# Altium footprint library con-deutsch.PCBLIB: 27 footprints (part 1 of 2)
Each footprint in its own frame and in the unit in brackets; x right, y up, seen from the top. Pads: shape width x height; smd on the part's side, far side on the other; paste and mask are expansions set on the pad; w line width, h text height; cw(c..) or ccw(c..) is an arc to the next point about the centre after c.
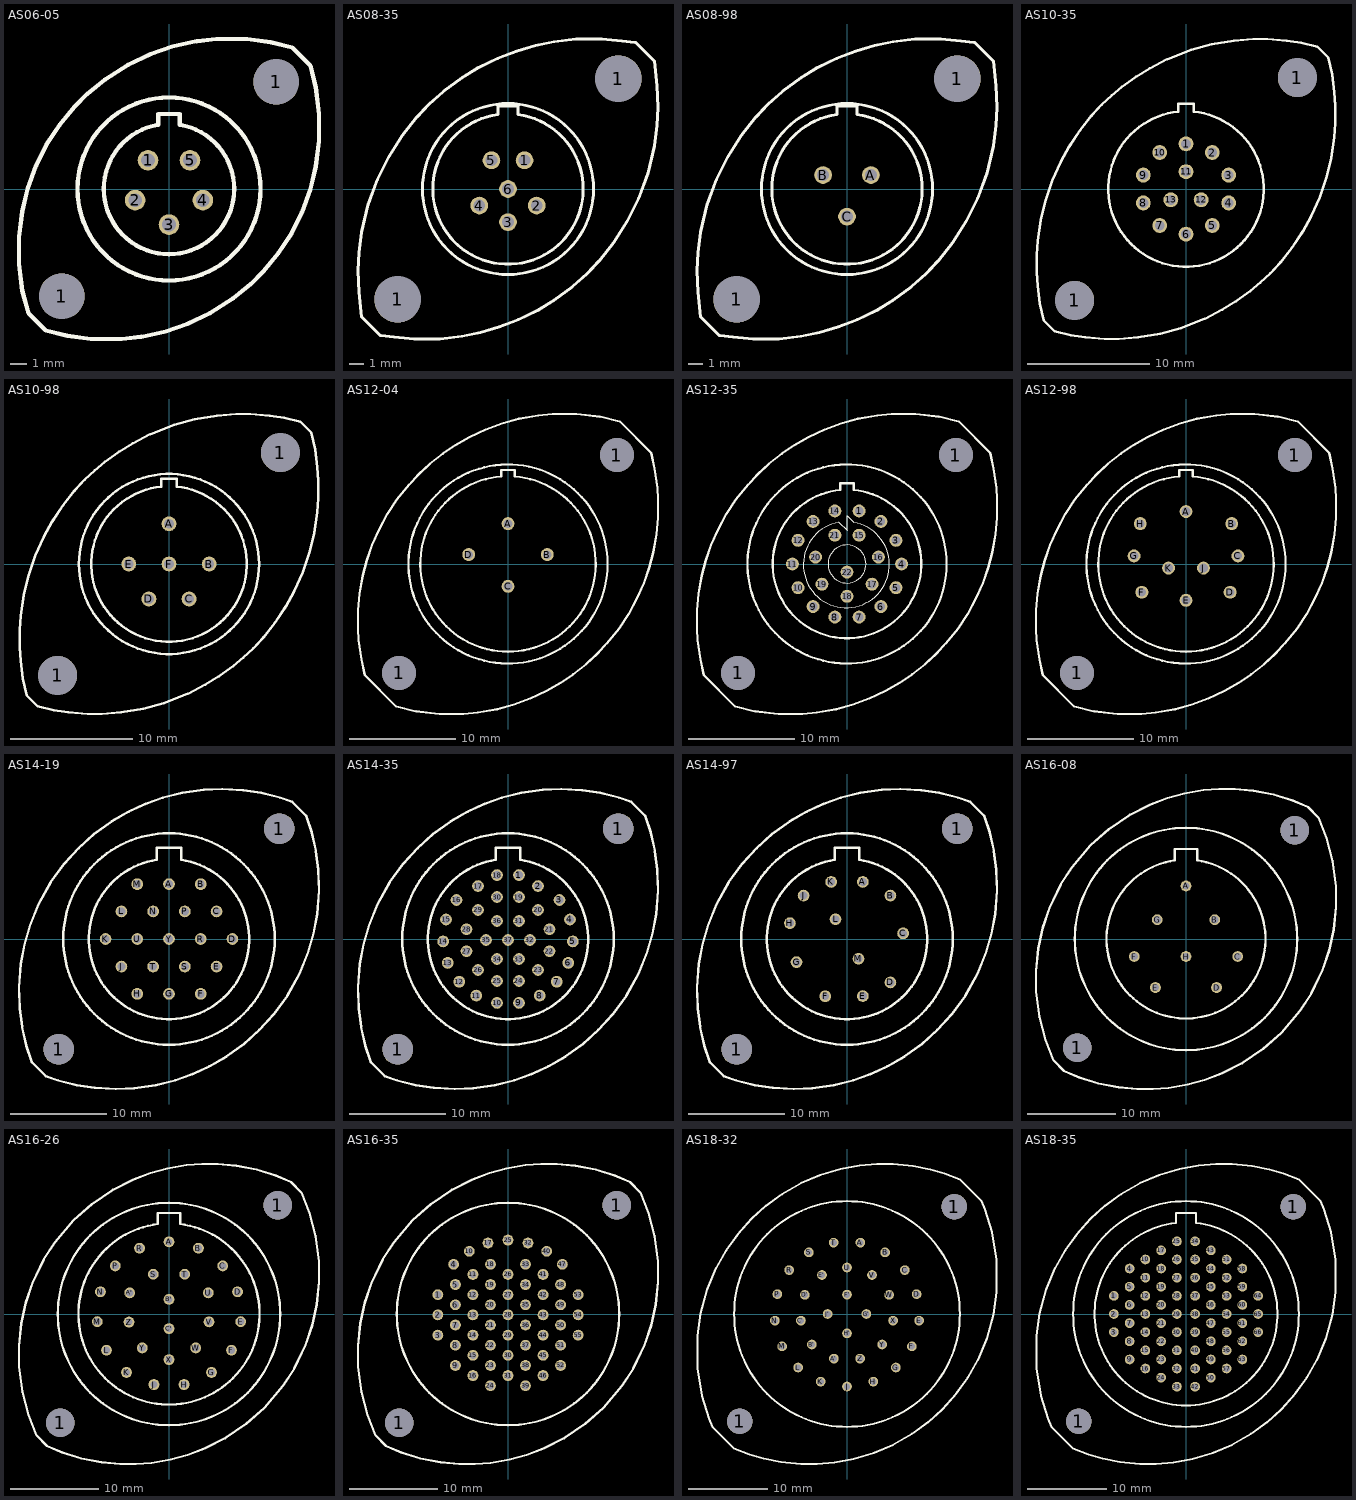
[diagram p0: the footprints below, top view; thin cyan lines are the x and y axes]

## AS06-05 [mil]
pads (7):
  round 106.3 hole 106.3: 1(-250,-250) 1(250,250)
  round 48 hole 32: 1(-49,67) 2(-79,-26) 3(0,-83) 4(79,-26) 5(49,67)
Top Overlay:
  circle w10: c0,0 r213.6
  lines w10: -350,-175 -342.5,-237.5 -327.5,-290 -287.5,-330 -237.5,-342.5 -182.5,-350 -110,-350 -65,-345 -7.5,-332.5 42.5,-315 95,-290 150,-255 190,-222.5 220,-192.5 255,-150 285,-105 310,-55 330,0 342.5,52.5 350,112.5 350,175 342.5,237.5 330,287.5 287.5,330 237.5,342.5 182.5,350 110,350 65,345 7.5,332.5 -42.5,315 -95,290 -150,255 -190,222.5 -220,192.5 -255,150 -285,105 -310,55 -330,0 -342.5,-52.5 -350,-112.5 -350,-175 ; -25,150 ccw(c0,0) 25,150 25,175 -25,175 -25,150

## AS08-35 [mil]
pads (8):
  round 125.98 hole 125.98: 1(-300,-300) 1(300,300)
  round 48 hole 32: 1(45,78) 2(78,-45) 3(0,-90) 4(-78,-45) 5(-45,78) 6(0,0)
Top Overlay:
  circle w8: c0,0 r232.5
  lines w8: -347.5,-397.5 -397.5,-347.5 -405,-280 -407.5,-222.5 -405,-172.5 -397.5,-117.5 -380,-42.5 -355,25 -325,85 -287.5,145 -247.5,195 -215,230 -175,265 -125,302.5 -80,330 -27.5,355 25,375 75,390 125,400 185,407.5 255,407.5 310,402.5 345,397.5 ; -345,-397.5 -310,-402.5 -255,-407.5 -185,-407.5 -125,-400 -75,-390 -25,-375 27.5,-355 80,-330 125,-302.5 175,-265 215,-230 247.5,-195 287.5,-145 325,-85 355,-25 380,42.5 397.5,117.5 405,172.5 407.5,222.5 405,280 397.5,347.5 347.5,397.5 ; -27.5,202.5 ccw(c0,0) 27.5,202.5 27.5,225 -27.5,225 -27.5,202.5

## AS08-98 [mil]
pads (5):
  round 125.98 hole 125.98: 1(-300,-300) 1(300,300)
  round 48 hole 32: A(65,38) B(-65,38) C(0,-75)
Top Overlay:
  circle w8: c0,0 r232.5
  lines w8: -347.5,-397.5 -397.5,-347.5 -405,-280 -407.5,-222.5 -405,-172.5 -397.5,-117.5 -380,-42.5 -355,25 -325,85 -287.5,145 -247.5,195 -215,230 -175,265 -125,302.5 -80,330 -27.5,355 25,375 75,390 125,400 185,407.5 255,407.5 310,402.5 345,397.5 ; -345,-397.5 -310,-402.5 -255,-407.5 -185,-407.5 -125,-400 -75,-390 -25,-375 27.5,-355 80,-330 125,-302.5 175,-265 215,-230 247.5,-195 287.5,-145 325,-85 355,-25 380,42.5 397.5,117.5 405,172.5 407.5,222.5 405,280 397.5,347.5 347.5,397.5 ; -27.5,202.5 ccw(c0,0) 27.5,202.5 27.5,225 -27.5,225 -27.5,202.5

## AS10-35 [mil]
pads (15):
  round 125.98 hole 125.98: 1(-360,-360) 1(360,360)
  round 48 hole 32: 1(0,146) 2(85,118) 3(138,45) 4(138,-45) 5(85,-118) 6(0,-146) 7(-85,-118) 8(-138,-45) 9(-138,45) 10(-85,118) 11(0,56) 12(49,-35) 13(-49,-35)
Top Overlay:
  lines w8: -482.5,-270 -480,-312.5 -472.5,-370 -460,-425 -425,-460 -372.5,-472.5 -325,-480 -262.5,-485 -217.5,-485 -155,-480 -82.5,-467.5 -17.5,-450 60,-420 117.5,-390 162.5,-362.5 207.5,-330 240,-302.5 272.5,-272.5 305,-237.5 342.5,-190 377.5,-137.5 405,-87.5 432.5,-27.5 455,40 470,100 480,167.5 482.5,212.5 482.5,270 480,312.5 472.5,370 460,425 425,460 372.5,472.5 325,480 262.5,485 217.5,485 155,480 82.5,467.5 17.5,450 -60,420 -117.5,390 -162.5,362.5 -207.5,330 -240,302.5 -272.5,272.5 -305,237.5 -342.5,190 -377.5,137.5 -405,87.5 -432.5,27.5 -455,-40 -470,-100 -480,-167.5 -482.5,-212.5 -482.5,-270 ; -25,250 -25,275 25,275 25,250 cw(c0,0) -25,250

## AS10-98 [mil]
pads (8):
  round 125.98 hole 125.98: 1(-360,-360) 1(360,360)
  round 48 hole 32: A(0,130) B(130,0) C(65,-113) D(-65,-113) E(-130,0) F(0,0)
Top Overlay:
  circle w8: c0,0 r291.34
  lines w8: -482.5,-270 -480,-312.5 -472.5,-370 -460,-425 -425,-460 -372.5,-472.5 -325,-480 -262.5,-485 -217.5,-485 -155,-480 -82.5,-467.5 -17.5,-450 60,-420 117.5,-390 162.5,-362.5 207.5,-330 240,-302.5 272.5,-272.5 305,-237.5 342.5,-190 377.5,-137.5 405,-87.5 432.5,-27.5 455,40 470,100 480,167.5 482.5,212.5 482.5,270 480,312.5 472.5,370 460,425 425,460 372.5,472.5 325,480 262.5,485 217.5,485 155,480 82.5,467.5 17.5,450 -60,420 -117.5,390 -162.5,362.5 -207.5,330 -240,302.5 -272.5,272.5 -305,237.5 -342.5,190 -377.5,137.5 -405,87.5 -432.5,27.5 -455,-40 -470,-100 -480,-167.5 -482.5,-212.5 -482.5,-270 ; -25,250 -25,275 25,275 25,250 cw(c0,0) -25,250

## AS12-04 [mil]
pads (6):
  round 125.98 hole 125.98: 1(-405,-405) 1(405,405)
  round 48 hole 32: A(0,150) B(146,35) C(0,-83) D(-146,35)
Top Overlay:
  circle w8: c0,0 r370
  lines w8: -557.5,-240 -555,-282.5 -545,-355 -532.5,-412.5 -415,-530 -342.5,-547.5 -255,-557.5 -165,-557.5 -112.5,-552.5 -40,-540 22.5,-522.5 82.5,-500 142.5,-472.5 197.5,-440 242.5,-410 290,-372.5 332.5,-332.5 367.5,-295 412.5,-240 447.5,-187.5 480,-127.5 505,-70 525,-12.5 540,42.5 552.5,110 557.5,172.5 557.5,240 555,282.5 545,355 532.5,412.5 415,530 342.5,547.5 255,557.5 165,557.5 112.5,552.5 40,540 -22.5,522.5 -82.5,500 -142.5,472.5 -197.5,440 -242.5,410 -290,372.5 -332.5,332.5 -367.5,295 -412.5,240 -447.5,187.5 -480,127.5 -505,70 -525,12.5 -540,-42.5 -552.5,-110 -557.5,-172.5 -557.5,-240 ; -25,325 -25,350 25,350 25,325 cw(c0,0) -25,325

## AS12-35 [mil]
pads (24):
  round 125.98 hole 125.98: 1(-405,-405) 1(405,405)
  round 48 hole 32: 1(45,197) 2(126,158) 3(182,88) 4(203,0) 5(182,-88) 6(126,-158) 7(45,-197) 8(-45,-197) 9(-126,-158) 10(-182,-88) 11(-203,0) 12(-182,88) 13(-126,158) 14(-45,197) 15(45,107) 16(117,26) 17(93,-75) 18(0,-120) 19(-93,-75) 20(-117,26) 21(-45,107) 22(0,-30)
Top Overlay:
  circle w8: c0,0 r370
  circle w2: c0,0 r70.71
  lines w2: -30,155 ccw(c-2.5,-2.5) 25,155 0,180 0,125 -30,155
  lines w8: -557.5,-240 -555,-282.5 -545,-355 -532.5,-412.5 -415,-530 -342.5,-547.5 -255,-557.5 -165,-557.5 -112.5,-552.5 -40,-540 22.5,-522.5 82.5,-500 142.5,-472.5 197.5,-440 242.5,-410 290,-372.5 332.5,-332.5 367.5,-295 412.5,-240 447.5,-187.5 480,-127.5 505,-70 525,-12.5 540,42.5 552.5,110 557.5,172.5 557.5,240 555,282.5 545,355 532.5,412.5 415,530 342.5,547.5 255,557.5 165,557.5 112.5,552.5 40,540 -22.5,522.5 -82.5,500 -142.5,472.5 -197.5,440 -242.5,410 -290,372.5 -332.5,332.5 -367.5,295 -412.5,240 -447.5,187.5 -480,127.5 -505,70 -525,12.5 -540,-42.5 -552.5,-110 -557.5,-172.5 -557.5,-240 ; -25,275 -25,300 25,300 25,275 cw(c0,0) -25,275

## AS12-98 [mil]
pads (12):
  round 125.98 hole 125.98: 1(-405,-405) 1(405,405)
  round 48 hole 32: A(0,195) B(170,150) C(193,30) D(164,-105) E(0,-135) F(-164,-105) G(-193,30) H(-170,150) J(65,-15) K(-65,-15)
Top Overlay:
  circle w8: c0,0 r370
  lines w8: -557.5,-240 -555,-282.5 -545,-355 -532.5,-412.5 -415,-530 -342.5,-547.5 -255,-557.5 -165,-557.5 -112.5,-552.5 -40,-540 22.5,-522.5 82.5,-500 142.5,-472.5 197.5,-440 242.5,-410 290,-372.5 332.5,-332.5 367.5,-295 412.5,-240 447.5,-187.5 480,-127.5 505,-70 525,-12.5 540,42.5 552.5,110 557.5,172.5 557.5,240 555,282.5 545,355 532.5,412.5 415,530 342.5,547.5 255,557.5 165,557.5 112.5,552.5 40,540 -22.5,522.5 -82.5,500 -142.5,472.5 -197.5,440 -242.5,410 -290,372.5 -332.5,332.5 -367.5,295 -412.5,240 -447.5,187.5 -480,127.5 -505,70 -525,12.5 -540,-42.5 -552.5,-110 -557.5,-172.5 -557.5,-240 ; -25,325 -25,350 25,350 25,325 cw(c0,0) -25,325

## AS14-19 [mil]
pads (21):
  round 125.98 hole 125.98: 1(-452.5,-452.5) 1(452.5,452.5)
  round 48 hole 32: A(0,225) B(130,225) C(195,113) D(260,0) E(195,-113) F(130,-225) G(0,-225) H(-130,-225) J(-195,-113) K(-260,0) L(-195,113) M(-130,225) N(-65,113) P(65,113) R(130,0) S(65,-113) T(-65,-113) U(-130,0) Y(0,0)
Top Overlay:
  circle w10: c0,0 r433.46
  lines w10: -615,-197.5 -612.5,-285 -602.5,-360 -585,-437.5 -562.5,-505 -505,-562.5 -455,-580 -377.5,-600 -305,-610 -217.5,-615 -142.5,-612.5 -55,-600 25,-580 95,-555 165,-522.5 235,-482.5 307.5,-430 370,-372.5 430,-307.5 485,-232.5 535,-142.5 570,-55 592.5,22.5 607.5,102.5 615,197.5 612.5,285 602.5,360 585,437.5 562.5,505 505,562.5 455,580 377.5,600 305,610 217.5,615 142.5,612.5 55,600 -25,580 -95,555 -165,522.5 -235,482.5 -307.5,430 -370,372.5 -430,307.5 -485,232.5 -535,142.5 -570,55 -592.5,-22.5 -607.5,-102.5 -615,-197.5 ; -50,325 ccw(c0,0) 50,325 50,375 -50,375 -50,325

## AS14-35 [mil]
pads (39):
  round 125.98 hole 125.98: 1(-452.5,-452.5) 1(452.5,452.5)
  round 48 hole 32: 1(45,262) 2(123,217) 3(211,160) 4(254,80) 5(266,-10) 6(247,-98) 7(200,-175) 8(130,-232) 9(45,-262) 10(-45,-262) 11(-130,-232) 12(-200,-175) 13(-247,-98) 14(-266,-10) 15(-254,80) 16(-211,160) 17(-123,217) 18(-45,262) 19(45,172) 20(123,119) 21(170,40) 22(170,-50) 23(123,-127) 24(45,-172) 25(-45,-172) 26(-123,-127) 27(-170,-50) 28(-170,40) 29(-123,119) 30(-45,172) 31(45,74) 32(90,-4) 33(45,-82) 34(-45,-82) 35(-90,-4) 36(-45,74) 37(0,-4)
Top Overlay:
  circle w10: c0,0 r433.46
  lines w10: -615,-197.5 -612.5,-285 -602.5,-360 -585,-437.5 -562.5,-505 -505,-562.5 -455,-580 -377.5,-600 -305,-610 -217.5,-615 -142.5,-612.5 -55,-600 25,-580 95,-555 165,-522.5 235,-482.5 307.5,-430 370,-372.5 430,-307.5 485,-232.5 535,-142.5 570,-55 592.5,22.5 607.5,102.5 615,197.5 612.5,285 602.5,360 585,437.5 562.5,505 505,562.5 455,580 377.5,600 305,610 217.5,615 142.5,612.5 55,600 -25,580 -95,555 -165,522.5 -235,482.5 -307.5,430 -370,372.5 -430,307.5 -485,232.5 -535,142.5 -570,55 -592.5,-22.5 -607.5,-102.5 -615,-197.5 ; -50,325 ccw(c0,0) 50,325 50,375 -50,375 -50,325

## AS14-97 [mil]
pads (14):
  round 125.98 hole 125.98: 1(-452.5,-452.5) 1(452.5,452.5)
  round 48 hole 32: A(65,234) B(178,178) C(230,23) D(178,-178) E(65,-234) F(-89,-235) G(-207,-95) H(-234,65) J(-178,178) K(-65,234) L(-47,81) M(47,-81)
Top Overlay:
  circle w10: c0,0 r433.46
  lines w10: -615,-197.5 -612.5,-285 -602.5,-360 -585,-437.5 -562.5,-505 -505,-562.5 -455,-580 -377.5,-600 -305,-610 -217.5,-615 -142.5,-612.5 -55,-600 25,-580 95,-555 165,-522.5 235,-482.5 307.5,-430 370,-372.5 430,-307.5 485,-232.5 535,-142.5 570,-55 592.5,22.5 607.5,102.5 615,197.5 612.5,285 602.5,360 585,437.5 562.5,505 505,562.5 455,580 377.5,600 305,610 217.5,615 142.5,612.5 55,600 -25,580 -95,555 -165,522.5 -235,482.5 -307.5,430 -370,372.5 -430,307.5 -485,232.5 -535,142.5 -570,55 -592.5,-22.5 -607.5,-102.5 -615,-197.5 ; -50,325 ccw(c0,0) 50,325 50,375 -50,375 -50,325

## AS16-08 [mil]
pads (10):
  round 125.98 hole 125.98: 1(-483.86,-483.86) 1(483.86,483.86)
  round 48 hole 32: A(0,236) B(128,86) C(230,-78) D(136,-216) E(-136,-216) F(-230,-78) G(-128,86) H(0,-78)
Top Overlay:
  circle w10: c0,0 r495
  lines w10: -667.5,-235 -652.5,-347.5 -625,-450 -590,-540 -542.5,-587.5 -477.5,-615 -390,-642.5 -300,-660 -217.5,-667.5 -147.5,-667.5 -77.5,-662.5 7.5,-647.5 82.5,-627.5 160,-597.5 250,-552.5 342.5,-490 425,-417.5 507.5,-320 557.5,-242.5 607.5,-137.5 637.5,-50 657.5,42.5 667.5,142.5 667.5,235 652.5,347.5 625,450 590,540 542.5,587.5 477.5,615 390,642.5 300,660 217.5,667.5 147.5,667.5 77.5,662.5 -7.5,647.5 -82.5,627.5 -160,597.5 -250,552.5 -342.5,490 -425,417.5 -507.5,320 -557.5,242.5 -607.5,137.5 -637.5,50 -657.5,-42.5 -667.5,-142.5 -667.5,-235 ; -50,350 ccw(c0,0) 50,350 50,400 -50,400 -50,350

## AS16-26 [mil]
pads (28):
  round 125.98 hole 125.98: 1(-483.86,-483.86) 1(483.86,483.86)
  round 48 hole 32: A(0,321) A'(-175,94) B(131,293) B'(0,65) C(239,214) C'(0,-65) D(305,99) E(319,-34) F(278,-161) G(189,-260) H(67,-314) J(-67,-314) K(-189,-260) L(-278,-161) M(-319,-34) N(-305,99) P(-239,214) R(-131,293) S(-70,177) T(70,177) U(175,94) V(178,-35) W(119,-151) X(0,-203) Y(-119,-151) Z(-178,-36)
Top Overlay:
  circle w10: c0,0 r495
  lines w10: -667.5,-235 -652.5,-347.5 -625,-450 -590,-540 -542.5,-587.5 -477.5,-615 -390,-642.5 -300,-660 -217.5,-667.5 -147.5,-667.5 -77.5,-662.5 7.5,-647.5 82.5,-627.5 160,-597.5 250,-552.5 342.5,-490 425,-417.5 507.5,-320 557.5,-242.5 607.5,-137.5 637.5,-50 657.5,42.5 667.5,142.5 667.5,235 652.5,347.5 625,450 590,540 542.5,587.5 477.5,615 390,642.5 300,660 217.5,667.5 147.5,667.5 77.5,662.5 -7.5,647.5 -82.5,627.5 -160,597.5 -250,552.5 -342.5,490 -425,417.5 -507.5,320 -557.5,242.5 -607.5,137.5 -637.5,50 -657.5,-42.5 -667.5,-142.5 -667.5,-235 ; -50,400 ccw(c0,0) 50,400 50,450 -50,450 -50,400

## AS16-35 [mil]
pads (57):
  round 125.98 hole 125.98: 1(-483.86,-483.86) 1(483.86,483.86)
  round 48 hole 32: 1(-312,86) 2(-312,-4) 3(-312,-94) 4(-242,221) 5(-234,131) 6(-234,41) 7(-234,-49) 8(-234,-139) 9(-234,-229) 10(-172,279) 11(-156,176) 12(-156,86) 13(-156,-4) 14(-156,-94) 15(-156,-184) 16(-156,-274) 17(-89,316) 18(-78,221) 19(-78,131) 20(-78,41) 21(-78,-49) 22(-78,-139) 23(-78,-229) 24(-78,-319) 25(0,329) 26(0,176) 27(0,86) 28(0,-4) 29(0,-94) 30(0,-184) 31(0,-274) 32(89,316) 33(78,221) 34(78,131) 35(78,41) 36(78,-49) 37(78,-139) 38(78,-229) 39(78,-319) 40(172,279) 41(156,176) 42(156,86) 43(156,-4) 44(156,-94) 45(156,-184) 46(156,-274) 47(242,221) 48(234,131) 49(234,41) 50(234,-49) 51(234,-139) 52(234,-229) 53(312,86) 54(312,-4) 55(312,-94)
Top Overlay:
  circle w10: c0,0 r495
  lines w10: -667.5,-235 -652.5,-347.5 -625,-450 -590,-540 -542.5,-587.5 -477.5,-615 -390,-642.5 -300,-660 -217.5,-667.5 -147.5,-667.5 -77.5,-662.5 7.5,-647.5 82.5,-627.5 160,-597.5 250,-552.5 342.5,-490 425,-417.5 507.5,-320 557.5,-242.5 607.5,-137.5 637.5,-50 657.5,42.5 667.5,142.5 667.5,235 652.5,347.5 625,450 590,540 542.5,587.5 477.5,615 390,642.5 300,660 217.5,667.5 147.5,667.5 77.5,662.5 -7.5,647.5 -82.5,627.5 -160,597.5 -250,552.5 -342.5,490 -425,417.5 -507.5,320 -557.5,242.5 -607.5,137.5 -637.5,50 -657.5,-42.5 -667.5,-142.5 -667.5,-235

## AS18-32 [mil]
pads (34):
  round 125.98 hole 125.98: 1(-531.1,-531.1) 1(531.1,531.1)
  round 48 hole 32: A(66,353) A'(-65,-221) B(189,305) B'(-174,-151) C(286,217) C'(-228,-33) D(345,98) D'(-209,95) E(357,-33) E'(-124,193) F(321,-160) F'(0,96) G(242,-265) G'(96,0) H(130,-335) H'(0,-96) J(0,-359) J'(-96,0) K(-130,-335) L(-242,-265) M(-321,-160) N(-357,-33) P(-345,98) R(-286,217) S(-189,305) T(-66,353) U(0,230) V(124,193) W(209,95) X(228,-33) Y(174,-151) Z(65,-221)
Top Overlay:
  circle w10: c0,0 r558.61
  lines w10: -740,-270 -717.5,-405 -682.5,-517.5 -665,-560 -560,-665 -482.5,-695 -412.5,-715 -327.5,-732.5 -227.5,-742.5 -147.5,-742.5 -62.5,-735 32.5,-717.5 132.5,-687.5 227.5,-647.5 322.5,-592.5 402.5,-535 472.5,-472.5 540,-395 597.5,-315 647.5,-227.5 692.5,-120 725,-2.5 740,107.5 740,270 717.5,405 682.5,517.5 665,560 560,665 482.5,695 412.5,715 327.5,732.5 227.5,742.5 147.5,742.5 62.5,735 -32.5,717.5 -132.5,687.5 -227.5,647.5 -322.5,592.5 -402.5,535 -472.5,472.5 -540,395 -597.5,315 -647.5,227.5 -692.5,120 -725,2.5 -740,-107.5 -740,-270

## AS18-35 [mil]
pads (68):
  round 125.98 hole 125.98: 1(-531.1,-531.1) 1(531.1,531.1)
  round 48 hole 32: 1(-357,90) 2(-357,0) 3(-357,-90) 4(-279,225) 5(-279,135) 6(-279,45) 7(-279,-45) 8(-279,-135) 9(-279,-225) 10(-201,270) 11(-201,180) 12(-201,90) 13(-201,0) 14(-201,-90) 15(-201,-180) 16(-201,-270) 17(-123,315) 18(-123,225) 19(-123,135) 20(-123,45) 21(-123,-45) 22(-123,-135) 23(-123,-225) 24(-123,-315) 25(-45,360) 26(-45,270) 27(-45,180) 28(-45,90) 29(-45,0) 30(-45,-90) 31(-45,-180) 32(-45,-270) 33(-45,-360) 34(45,360) 35(45,270) 36(45,180) 37(45,90) 38(45,0) 39(45,-90) 40(45,-180) 41(45,-270) 42(45,-360) 43(123,315) 44(123,225) 45(123,135) 46(123,45) 47(123,-45) 48(123,-135) 49(123,-225) 50(123,-315) 51(201,270) 52(201,180) 53(201,90) 54(201,0) 55(201,-90) 56(201,-180) 57(201,-270) 58(279,225) 59(279,135) 60(279,45) 61(279,-45) 62(279,-135) 63(279,-225) 64(357,90) 65(357,0) 66(357,-90)
Top Overlay:
  circle w10: c0,0 r558.61
  lines w10: -740,-270 -717.5,-405 -682.5,-517.5 -665,-560 -560,-665 -482.5,-695 -412.5,-715 -327.5,-732.5 -227.5,-742.5 -147.5,-742.5 -62.5,-735 32.5,-717.5 132.5,-687.5 227.5,-647.5 322.5,-592.5 402.5,-535 472.5,-472.5 540,-395 597.5,-315 647.5,-227.5 692.5,-120 725,-2.5 740,107.5 740,270 717.5,405 682.5,517.5 665,560 560,665 482.5,695 412.5,715 327.5,732.5 227.5,742.5 147.5,742.5 62.5,735 -32.5,717.5 -132.5,687.5 -227.5,647.5 -322.5,592.5 -402.5,535 -472.5,472.5 -540,395 -597.5,315 -647.5,227.5 -692.5,120 -725,2.5 -740,-107.5 -740,-270 ; -50,450 ccw(c0,0) 50,450 50,500 -50,500 -50,450